# Altium schematic symbol library CRYSTAL 4PIN.Schlib: 1 symbol
Pins are listed as number, name and electrical type; pins without a type are passive.

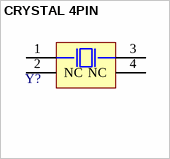
[diagram p0: symbol CRYSTAL 4PIN]

## CRYSTAL 4PIN
designator Y?
pins: 1, 2 NC, 3, 4 NC